# EAGLE library part BCM857BS (library BCM857BS)
NEXPERIA - BCM857BS - TRANSISTOR, MATCHED, SOT-363 Source: Datasheet <https://assets.nexperia.com/documents/data-sheet/BCM857BV_BS_DS.pdf>
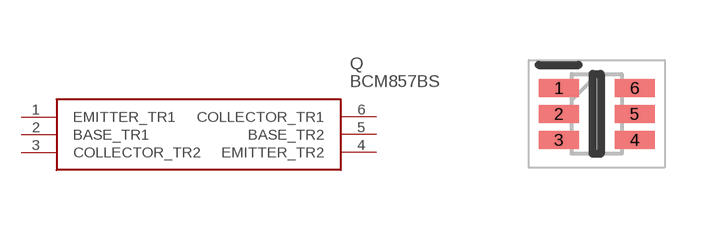
[diagram p0: symbol with the pads of SOT65P210X110-6N; footprint SOT65P210X110-6N]

Designator prefix Q

## BCM857BS (Description: NEXPERIA - BCM857BS - TRANSISTOR, MATCHED, SOT-363; Height: 1.1mm; Manufacturer_Name: Nexperia; Manufacturer_Part_Number: BCM857BS; Mouser_Part_Number: N/A; Mouser_Price-Stock: https://www.mouser.com/Search/Refine.aspx?Keyword=N%2FA)  [SOT65P210X110-6N]
1  EMITTER_TR1
2  BASE_TR1
3  COLLECTOR_TR2
4  EMITTER_TR2
5  BASE_TR2
6  COLLECTOR_TR1

## Footprint SOT65P210X110-6N (pad centres in mm)
SOT-363 (SC-88)
smd 1 x 0.45: 1 -0.95,0.65; 2 -0.95,0; 3 -0.95,-0.65; 4 0.95,-0.65; 5 0.95,0; 6 0.95,0.65